# EAGLE library part TPS62122_DRV_6 (library myTracelib)
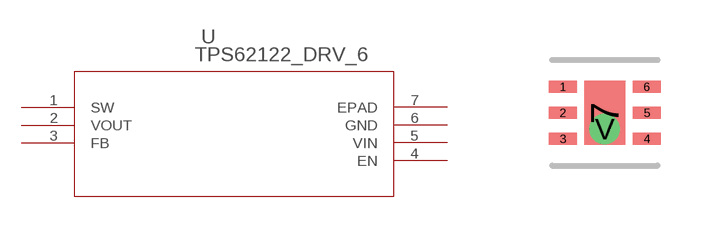
[diagram p1: symbol with the pads of DRV6_1P6X1; footprint DRV6_1P6X1]

Designator prefix U

## TPS62122_DRV_6 (DATASHEETURL: http://www.ti.com/lit/gpn/TPS62122; DESCRIPTION: 15V, 75mA, 96% efficiency Step-Down Converter; FAMILY_NAME: STEP-DOWN REGULATOR; GENERIC_PART_NUMBER: TPS62122; INDUSTRY_STD_PKG_TYPE: SON; MANUFACTURER: Texas Instruments; MANUFACTURER_PART_NUMBER: tps62122_drv_6; PACKAGE_DESIGNATOR: DRV; PIN_COUNT: 6; VENDOR: Texas Instruments)  [DRV6_1P6X1]
1  SW  out
2  VOUT  in
3  FB  in
4  EN  in
5  VIN  pwr
6  GND  pwr
7  EPAD  pas

## Footprint DRV6_1P6X1 (pad centres in mm)
smd 0.711 x 0.305: 1 -1.05,0.65; 2 -1.05,0; 3 -1.05,-0.65; 4 1.05,-0.65; 5 1.05,0; 6 1.05,0.65
smd 1.016 x 1.6: 7 0,0
drill 0.254: V 0,-0.406